# Altium schematic symbol library MBR540-DO-201AD.SchLib: 1 symbol
Pins are listed as number, name and electrical type; pins without a type are passive.

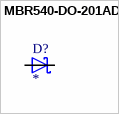
[diagram p0: symbol MBR540-DO-201AD]

## MBR540-DO-201AD
designator D?
40V 5A 580mV@5A DO-201AD Schottky Barrier Diodes (SBD) ROHS; Manufacturer: Jilin Sino-Microelectronics; Mfr. Part #: MBR540-DO-201AD; Package: DO-201AD; Datasheet: https://datasheet.lcsc.com/lcsc/1811081224_Jilin-Sino-Microelectronics-MBR540-DO-201AD_C272410.pdf; LCSC Part #: C272410
footprint DIOAD2120W130L950D530P
pins: A, C